# EAGLE library part OPA380AID (library SamacSys_Parts)
Texas Instruments OPA380AID, Transimpedance Amplifier 3 V, 5 V 90MHz 8-Pin SOIC Source: Datasheet <http://www.ti.com/lit/gpn/opa380>
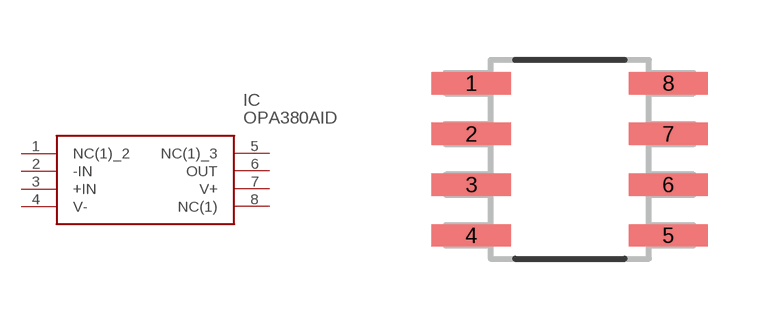
[diagram p3: symbol with the pads of SOIC127P600X175-8N; footprint SOIC127P600X175-8N]

Designator prefix IC

## OPA380AID (DESCRIPTION: Texas Instruments OPA380AID, Transimpedance Amplifier 3 V, 5 V 90MHz 8-Pin SOIC; HEIGHT: mm; MANUFACTURER_NAME: Texas Instruments; MANUFACTURER_PART_NUMBER: OPA380AID; MOUSER_PART_NUMBER: 595-OPA380AID; MOUSER_PRICE-STOCK: https://www.mouser.com/Search/Refine.aspx?Keyword=595-OPA380AID; RS_PART_NUMBER: 9223274; RS_PRICE-STOCK: http://uk.rs-online.com/web/p/products/9223274)  [SOIC127P600X175-8N]
1  NC(1)_2  nc
2  -IN
3  +IN
4  V-
5  NC(1)_3  nc
6  OUT
7  V+
8  NC(1)  nc

## Footprint SOIC127P600X175-8N (pad centres in mm)
SOIC127P600X175-8N
smd 1.981 x 0.559: 1 -2.464,1.905; 2 -2.464,0.635; 3 -2.464,-0.635; 4 -2.464,-1.905; 5 2.464,-1.905; 6 2.464,-0.635; 7 2.464,0.635; 8 2.464,1.905